# Altium footprint library U.FL-R-SMT(0,1).PcbLib: 1 footprints
Each footprint in its own frame and in the unit in brackets; x right, y up, seen from the top. Pads: shape width x height; smd on the part's side, far side on the other; paste and mask are expansions set on the pad; w line width, h text height; cw(c..) or ccw(c..) is an arc to the next point about the centre after c.
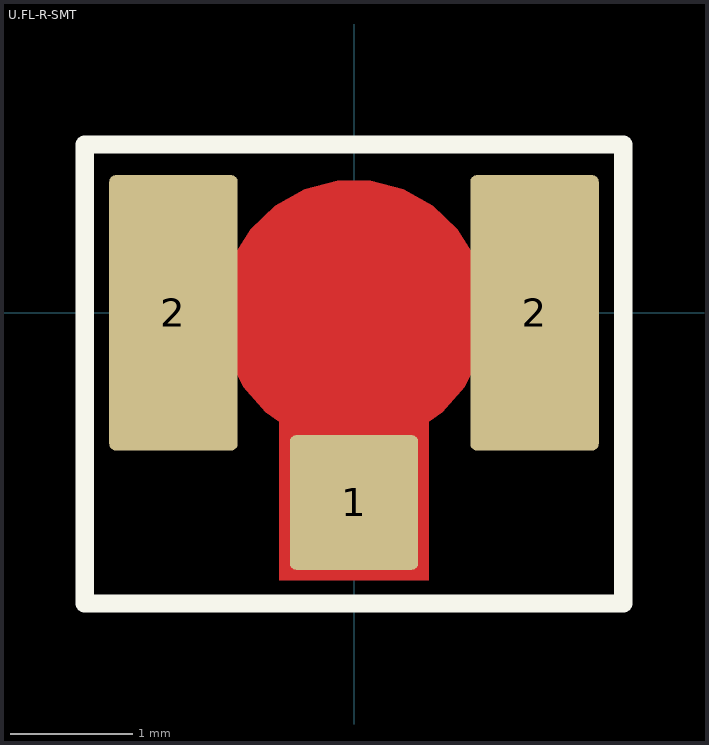
[diagram p0: the footprint, top view; thin cyan lines are the x and y axes]

## U.FL-R-SMT [mm]
pads (3):
  rrect10% 1.05x1.1 smd: 1(0,-1.55)
  rrect10% 1.05x2.25 smd: 2(-1.475,0) 2(1.475,0)
Top Layer:
  pour cut-out: -0.61,-2.184 -0.61,-0.889 -0.723,-0.811 -0.904,-0.603 -1.026,-0.357 -1.083,-0.087 -1.07,0.188 -0.989,0.451 -0.844,0.685 -0.645,0.875 -0.404,1.009 -0.138,1.078 0.138,1.078 0.404,1.009 0.645,0.875 0.844,0.685 0.989,0.451 1.07,0.188 1.083,-0.087 1.026,-0.357 0.904,-0.603 0.723,-0.811 0.61,-0.889 0.61,-2.184
Top Overlay:
  lines w0.15: -2.2,-2.375 -2.2,1.375 2.2,1.375 2.2,-2.375 -2.2,-2.375
Mechanical 1:
  circle w0.2: c0,0 r0.46